# Altium footprint library mu-ssbpp_FootprintLibrary.PcbLib: 48 footprints (part 1 of 3)
Each footprint in its own frame and in the unit in brackets; x right, y up, seen from the top. Pads: shape width x height; smd on the part's side, far side on the other; paste and mask are expansions set on the pad; w line width, h text height; cw(c..) or ccw(c..) is an arc to the next point about the centre after c.
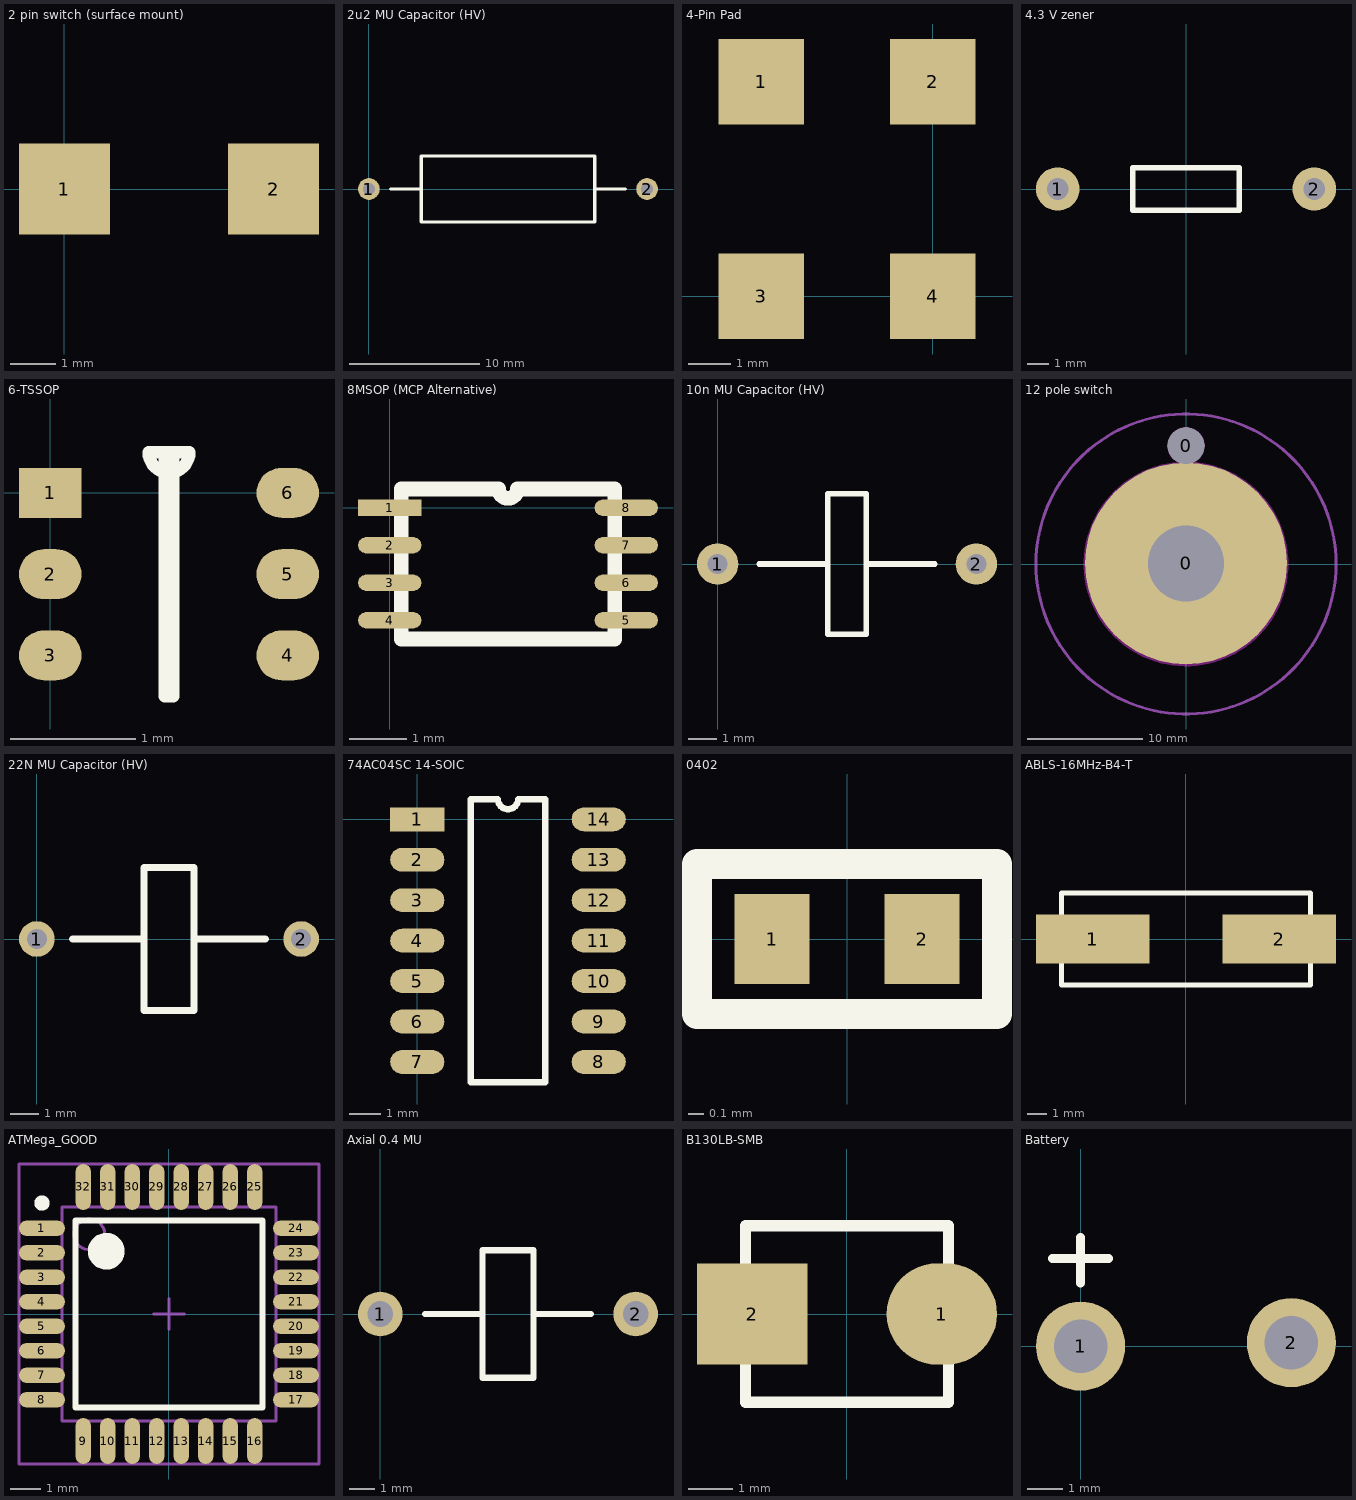
[diagram p0: the footprints below, top view; thin cyan lines are the x and y axes]

## 2 pin switch (surface mount) [mm]
pads (2):
  rect 2x2 smd: 1(0,0) 2(4.6,0)

## 2u2 MU Capacitor (HV) [mil]
pads (2):
  round 66 hole 36: 1(0,0) 2(840.55,0)
Top Overlay:
  lines w10: 66,0 158,0 ; 682.55,0 774.55,0 ; 158,0 158,100 682.55,100 682.55,-100 158,-100 158,0

## 4-Pin Pad [mm]
pads (4):
  rect 2x2 smd: 1(-4,5) 2(0,5) 3(-4,0) 4(0,0)

## 4.3 V zener [mil]
pads (2):
  round 80 hole 40: 1(-236.22,0) 2(236.22,0)
Top Overlay:
  lines w10: -98.43,-39.37 98.43,-39.37 98.43,39.37 -98.43,39.37 -98.43,-39.37

## 6-TSSOP [mm]
pads (6):
  rect 0.5x0.4 smd: 1(0,0)
  oval 0.5x0.4 smd: 2(0,-0.65) 3(0,-1.3) 4(1.9,-1.3) 5(1.9,-0.65) 6(1.9,0)
Top Overlay:
  lines w0.1: 0.787,0.325 ccw(c0.95,0.325) 1.112,0.325 0.915,0.325 0.915,-1.625 0.985,-1.625 0.985,0.325 0.787,0.325

## 8MSOP (MCP Alternative) [mm]
pads (8):
  rect 1.1x0.28 smd: 1(0,0)
  oval 1.1x0.28 smd: 2(0,-0.65) 3(0,-1.3) 4(0,-1.95) 5(4.1,-1.95) 6(4.1,-1.3) 7(4.1,-0.65) 8(4.1,0)
Top Overlay:
  lines w0.254: 0.2,-2.275 0.2,0.325 1.887,0.325 ccw(c2.05,0.325) 2.212,0.325 3.9,0.325 3.9,-2.275 0.2,-2.275

## 10n MU Capacitor (HV) [mil]
pads (2):
  round 58 hole 28: 1(0,0) 2(362.2,0)
Top Overlay:
  lines w7.87: 58,0 154,0 ; 208.2,0 304.2,0 ; 154,0 154,98.43 208.2,98.43 208.2,-98.43 154,-98.43 154,0

## 12 pole switch [mm] "rotary switch"
height 12.65
pads (2):
  round 17.5 hole 6.604: 0(0,0.05)
  round 3.175 hole 3.175: 0(0,10.25)
Keep-Out Layer:
  circle w0.254: c0,10.25 r1.5
  circle w0.254: c0,0 r8.75
Mechanical 15:
  circle w0.254: c0,0 r13

## 22N MU Capacitor (HV) [mil]
pads (2):
  round 50 hole 28: 1(0,0) 2(370.08,0)
Top Overlay:
  lines w10: 50,0 150,0 ; 220.08,0 320.08,0 ; 150,0 150,-100 220.08,-100 220.08,100 150,100 150,0

## 74AC04SC 14-SOIC [mm]
pads (14):
  rect 1.7x0.75 smd: 1(0,0)
  oval 1.7x0.75 smd: 2(0,-1.27) 3(0,-2.54) 4(0,-3.81) 5(0,-5.08) 6(0,-6.35) 7(0,-7.62) 8(5.7,-7.62) 9(5.7,-6.35) 10(5.7,-5.08) 11(5.7,-3.81) 12(5.7,-2.54) 13(5.7,-1.27) 14(5.7,0)
Top Overlay:
  lines w0.2: 1.685,-8.255 1.685,0.635 2.532,0.635 ccw(c2.85,0.635) 3.167,0.635 4.015,0.635 4.015,-8.255 1.685,-8.255

## 0402 [mm]
pads (2):
  rect 0.5x0.6 smd: 1(-0.5,0) 2(0.5,0)
Top Overlay:
  lines w0.2: -1,-0.5 -1,0.5 1,0.5 1,-0.5 -1,-0.5

## ABLS-16MHz-B4-T [mm] "Abracon ABLS Series 16MHz 18pF Crystal"
pads (2):
  rect 5.8x2.5 smd: 1(-4.75,0) 2(4.75,0)
Top Overlay:
  lines w0.25: -6.35,-2.35 6.35,-2.35 6.35,2.35 -6.35,2.35 -6.35,-2.35

## ATMega_GOOD [mm]
pads (32):
  oval 1.5x0.5 smd: 1(-4.15,2.8) 2(-4.15,2) 3(-4.15,1.2) 4(-4.15,0.4) 5(-4.15,-0.4) 6(-4.15,-1.2) 7(-4.15,-2) 8(-4.15,-2.8) 17(4.15,-2.8) 18(4.15,-2) 19(4.15,-1.2) 20(4.15,-0.4) 21(4.15,0.4) 22(4.15,1.2) 23(4.15,2) 24(4.15,2.8)
  oval 0.5x1.5 smd: 9(-2.8,-4.15) 10(-2,-4.15) 11(-1.2,-4.15) 12(-0.4,-4.15) 13(0.4,-4.15) 14(1.2,-4.15) 15(2,-4.15) 16(2.8,-4.15) 25(2.8,4.15) 26(2,4.15) 27(1.2,4.15) 28(0.4,4.15) 29(-0.4,4.15) 30(-1.2,4.15) 31(-2,4.15) 32(-2.8,4.15)
Top Overlay:
  circle w0.25: c-4.15,3.625 r0.125
  circle w0.6: c-2.05,2.05 r0.3
  lines w0.2: -3.05,-3.05 -3.05,3.05 3.05,3.05 3.05,-3.05 -3.05,-3.05
Mechanical 13:
  circle w0.1: c-2.6,2.6 r0.5
  lines w0.1: -3.5,-3.5 -3.5,3.5 3.5,3.5 3.5,-3.5 -3.5,-3.5
Mechanical 15:
  lines w0.1: -0.5,0 0.5,0 ; 0,-0.5 0,0.5 ; -4.9,-4.9 -4.9,4.9 4.9,4.9 4.9,-4.9 -4.9,-4.9
3D body: height 1.2, standoff 0, extent -3.5,-3.5 3.5,3.5

## Axial 0.4 MU [mil]
pads (2):
  round 70 hole 40: 1(0,0) 2(400,0)
Top Overlay:
  lines w10: 70,0 160,0 ; 240,0 330,0 ; 160,0 160,-100 240,-100 240,100 160,100 160,0

## B130LB-SMB [mm]
pads (2):
  oval 2.5x2.3 smd: 1(2.15,0)
  rect 2.5x2.3 smd: 2(-2.15,0)
Top Overlay:
  lines w0.25: -2.3,-2 -2.3,2 2.3,2 2.3,-2 -2.3,-2

## Battery [mm]
pads (2):
  round 2.54 hole 1.524: 1(0,0) 2(6,0.1)
Top Overlay:
  lines w0.254: -0.8,2.5 0.8,2.5 ; 0,1.8 0,3.1